# EAGLE library part AS72653 (library Qwiic_Spectral_Sensor-AS7265x)
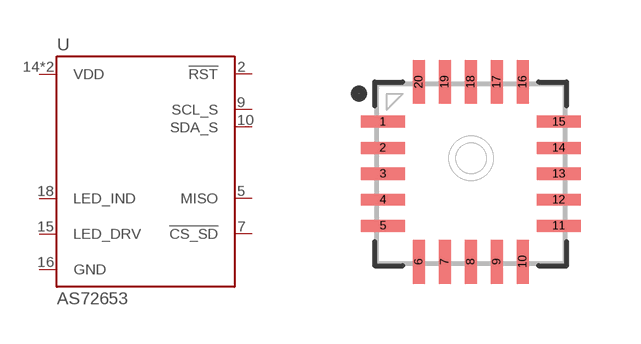
[diagram p5: symbol with the pads of LGA20; footprint LGA20]

Designator prefix U

## AS72653 (PROD_ID: IC-14129)  [LGA20]
2  !RST
5  MISO
7  !CS_SD
9  SCL_S
10  SDA_S
14  VDD
15  LED_DRV
16  GND
17  VDD
18  LED_IND

## Footprint LGA20 (pad centres in mm)
smd 1.1 x 0.3: 1 -2.2,1.3; 2 -2.2,0.65; 3 -2.2,0; 4 -2.2,-0.65; 5 -2.2,-1.3; 11 2.2,-1.3; 12 2.2,-0.65; 13 2.2,0; 14 2.2,0.65; 15 2.2,1.3
smd 0.3 x 1.1: 6 -1.3,-2.2; 7 -0.65,-2.2; 8 0,-2.2; 9 0.65,-2.2; 10 1.3,-2.2; 16 1.3,2.3; 17 0.65,2.3; 18 0,2.3; 19 -0.65,2.3; 20 -1.3,2.3